# Altium footprint library 691 701 310 0xx B.PcbLib: 11 footprints
Each footprint in its own frame and in the unit in brackets; x right, y up, seen from the top. Pads: shape width x height; smd on the part's side, far side on the other; paste and mask are expansions set on the pad; w line width, h text height; cw(c..) or ccw(c..) is an arc to the next point about the centre after c.
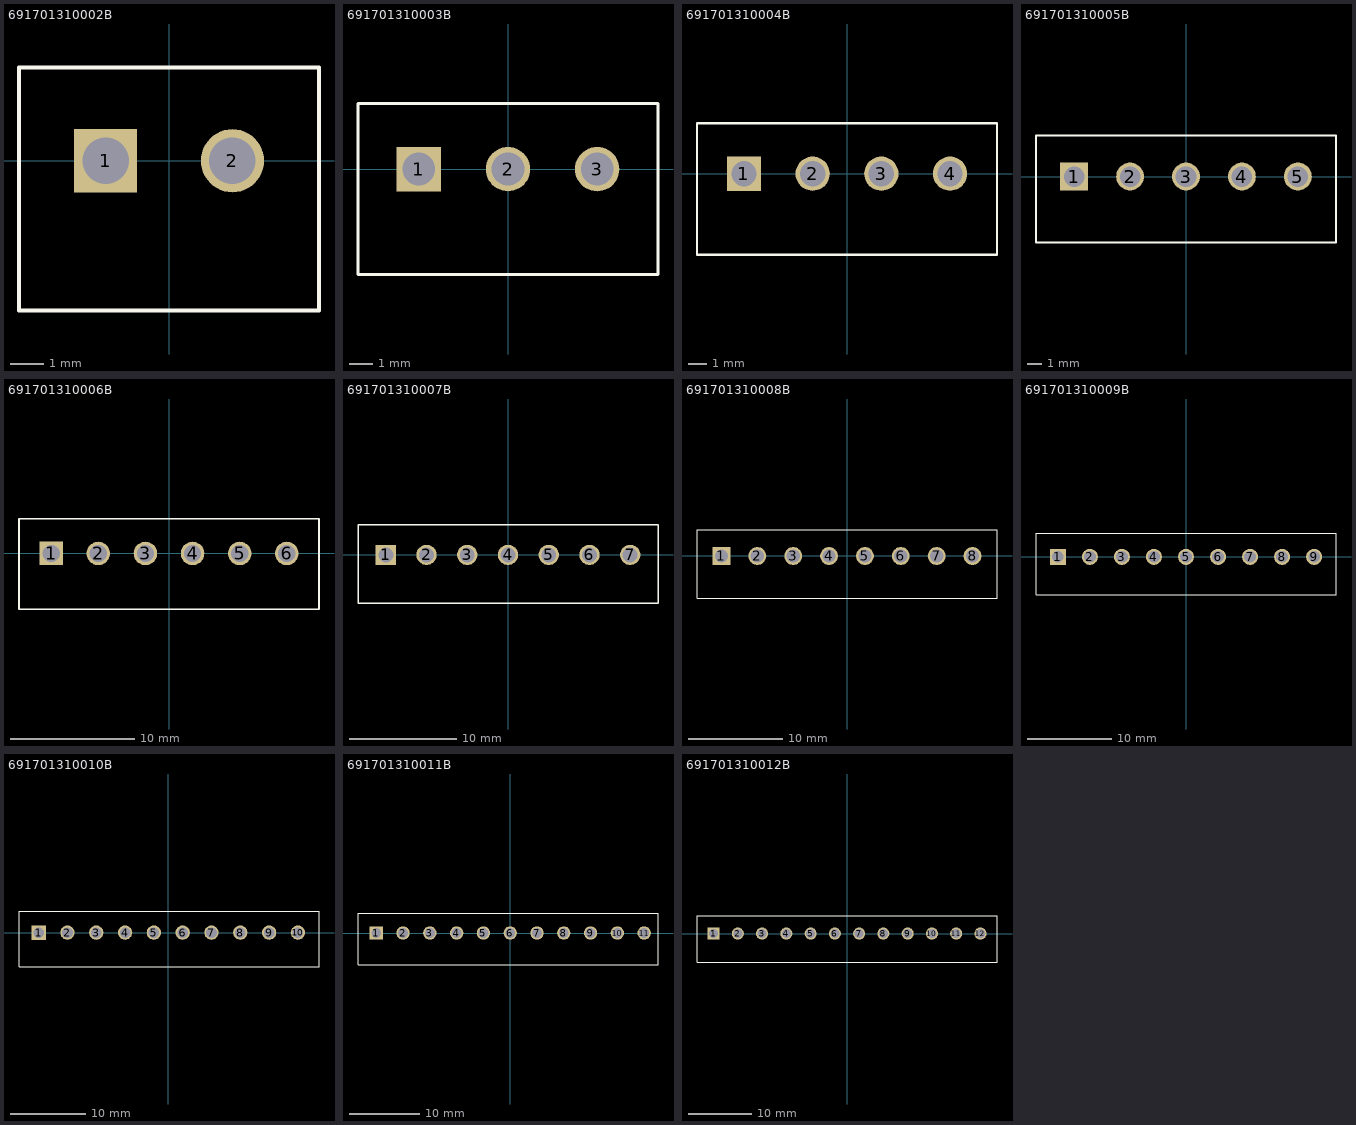
[diagram p0: the footprints below, top view; thin cyan lines are the x and y axes]

## 691701310002B [mm] "THR - 3,81mm - PCB Vertical Close - 02p"
height 9.2
pads (2):
  rect 1.9x1.9 hole 1.4: 1(-1.905,0)
  round 1.9 hole 1.4: 2(1.905,0)
Top Overlay:
  lines w0.127: -4.505,-4.5 -4.505,2.8 ; -4.505,-4.5 4.505,-4.5 ; -4.505,-4.5 4.505,-4.5 ; -4.505,-4.5 -4.505,2.8 ; -4.505,2.8 4.505,2.8 ; -4.505,2.8 4.505,2.8 ; 4.505,-4.5 4.505,2.8 ; 4.505,-4.5 4.505,2.8
3D body: height 9.21, standoff -2.59, extent -4.505,-4.5 4.505,2.8

## 691701310003B [mm] "THR - 3,81mm - PCB Vertical Close - 03p"
height 9.2
pads (3):
  rect 1.9x1.9 hole 1.4: 1(-3.81,0)
  round 1.9 hole 1.4: 2(0,0) 3(3.81,0)
Top Overlay:
  lines w0.127: -6.41,-4.5 -6.41,2.8 ; -6.41,-4.5 6.41,-4.5 ; -6.41,-4.5 6.41,-4.5 ; -6.41,-4.5 -6.41,2.8 ; -6.41,2.8 6.41,2.8 ; -6.41,2.8 6.41,2.8 ; 6.41,-4.5 6.41,2.8 ; 6.41,-4.5 6.41,2.8
3D body: height 9.21, standoff -2.59, extent -6.41,-4.5 6.41,2.8

## 691701310004B [mm] "THR - 3,81mm - PCB Vertical Close - 04p"
height 9.2
pads (4):
  rect 1.9x1.9 hole 1.4: 1(-5.715,0)
  round 1.9 hole 1.4: 2(-1.905,0) 3(1.905,0) 4(5.715,0)
Top Overlay:
  lines w0.127: -8.315,-4.5 -8.315,2.8 ; -8.315,-4.5 8.315,-4.5 ; -8.315,-4.5 8.315,-4.5 ; -8.315,-4.5 -8.315,2.8 ; -8.315,2.8 8.315,2.8 ; -8.315,2.8 8.315,2.8 ; 8.315,-4.5 8.315,2.8 ; 8.315,-4.5 8.315,2.8
3D body: height 9.21, standoff -2.59, extent -8.315,-4.5 8.315,2.8

## 691701310005B [mm] "THR - 3,81mm - PCB Vertical Close - 05p"
height 9.2
pads (5):
  rect 1.9x1.9 hole 1.4: 1(-7.62,0)
  round 1.9 hole 1.4: 2(-3.81,0) 3(0,0) 4(3.81,0) 5(7.62,0)
Top Overlay:
  lines w0.127: -10.22,-4.5 -10.22,2.8 ; -10.22,-4.5 10.22,-4.5 ; -10.22,-4.5 10.22,-4.5 ; -10.22,-4.5 -10.22,2.8 ; -10.22,2.8 10.22,2.8 ; -10.22,2.8 10.22,2.8 ; 10.22,-4.5 10.22,2.8 ; 10.22,-4.5 10.22,2.8
3D body: height 9.21, standoff -2.59, extent -10.22,-4.5 10.22,2.8

## 691701310006B [mm] "THR - 3,81mm - PCB Vertical Close - 06p"
height 9.2
pads (6):
  rect 1.9x1.9 hole 1.4: 1(-9.525,0)
  round 1.9 hole 1.4: 2(-5.715,0) 3(-1.905,0) 4(1.905,0) 5(5.715,0) 6(9.525,0)
Top Overlay:
  lines w0.127: -12.125,-4.5 -12.125,2.8 ; -12.125,-4.5 12.125,-4.5 ; -12.125,-4.5 12.125,-4.5 ; -12.125,-4.5 -12.125,2.8 ; -12.125,2.8 12.125,2.8 ; -12.125,2.8 12.125,2.8 ; 12.125,-4.5 12.125,2.8 ; 12.125,-4.5 12.125,2.8
3D body: height 9.21, standoff -2.59, extent -12.125,-4.5 12.125,2.8

## 691701310007B [mm] "THR - 3,81mm - PCB Vertical Close - 07p"
height 9.2
pads (7):
  rect 1.9x1.9 hole 1.4: 1(-11.43,0)
  round 1.9 hole 1.4: 2(-7.62,0) 3(-3.81,0) 4(0,0) 5(3.81,0) 6(7.62,0) 7(11.43,0)
Top Overlay:
  lines w0.127: -14.03,-4.5 -14.03,2.8 ; -14.03,-4.5 14.03,-4.5 ; -14.03,-4.5 14.03,-4.5 ; -14.03,-4.5 -14.03,2.8 ; -14.03,2.8 14.03,2.8 ; -14.03,2.8 14.03,2.8 ; 14.03,-4.5 14.03,2.8 ; 14.03,-4.5 14.03,2.8
3D body: height 9.21, standoff -2.59, extent -14.03,-4.5 14.03,2.8

## 691701310008B [mm] "THR - 3,81mm - PCB Vertical Close - 08p"
height 9.2
pads (8):
  rect 1.9x1.9 hole 1.4: 1(-13.335,0)
  round 1.9 hole 1.4: 2(-9.525,0) 3(-5.715,0) 4(-1.905,0) 5(1.905,0) 6(5.715,0) 7(9.525,0) 8(13.335,0)
Top Overlay:
  lines w0.127: -15.935,-4.5 -15.935,2.8 ; -15.935,-4.5 15.935,-4.5 ; -15.935,-4.5 15.935,-4.5 ; -15.935,-4.5 -15.935,2.8 ; -15.935,2.8 15.935,2.8 ; -15.935,2.8 15.935,2.8 ; 15.935,-4.5 15.935,2.8 ; 15.935,-4.5 15.935,2.8
3D body: height 9.21, standoff -2.59, extent -15.935,-4.5 15.935,2.8

## 691701310009B [mm] "THR - 3,81mm - PCB Vertical Close - 09p"
height 9.2
pads (9):
  rect 1.9x1.9 hole 1.4: 1(-15.24,0)
  round 1.9 hole 1.4: 2(-11.43,0) 3(-7.62,0) 4(-3.81,0) 5(0,0) 6(3.81,0) 7(7.62,0) 8(11.43,0) 9(15.24,0)
Top Overlay:
  lines w0.127: -17.84,-4.5 -17.84,2.8 ; -17.84,-4.5 17.84,-4.5 ; -17.84,-4.5 17.84,-4.5 ; -17.84,-4.5 -17.84,2.8 ; -17.84,2.8 17.84,2.8 ; -17.84,2.8 17.84,2.8 ; 17.84,-4.5 17.84,2.8 ; 17.84,-4.5 17.84,2.8
3D body: height 9.21, standoff -2.59, extent -17.84,-4.5 17.84,2.8

## 691701310010B [mm] "THR - 3,81mm - PCB Vertical Close - 10p"
height 9.2
pads (10):
  rect 1.9x1.9 hole 1.4: 1(-17.145,0)
  round 1.9 hole 1.4: 2(-13.335,0) 3(-9.525,0) 4(-5.715,0) 5(-1.905,0) 6(1.905,0) 7(5.715,0) 8(9.525,0) 9(13.335,0) 10(17.145,0)
Top Overlay:
  lines w0.127: -19.745,-4.5 -19.745,2.8 ; -19.745,-4.5 19.935,-4.5 ; -19.745,-4.5 19.935,-4.5 ; -19.745,-4.5 -19.745,2.8 ; -19.745,2.8 19.935,2.8 ; -19.745,2.8 19.935,2.8 ; 19.935,-4.5 19.935,2.8 ; 19.935,-4.5 19.935,2.8
3D body: height 9.21, standoff -2.59, extent -19.745,-4.5 19.745,2.8

## 691701310011B [mm] "THR - 3,81mm - PCB Vertical Close - 11p"
height 9.2
pads (11):
  rect 1.9x1.9 hole 1.4: 1(-19.05,0)
  round 1.9 hole 1.4: 2(-15.24,0) 3(-11.43,0) 4(-7.62,0) 5(-3.81,0) 6(0,0) 7(3.81,0) 8(7.62,0) 9(11.43,0) 10(15.24,0) 11(19.05,0)
Top Overlay:
  lines w0.127: -21.65,-4.5 -21.65,2.8 ; -21.65,-4.5 21.02,-4.5 ; -21.65,-4.5 21.02,-4.5 ; -21.65,-4.5 -21.65,2.8 ; -21.65,2.8 21.02,2.8 ; -21.65,2.8 21.02,2.8 ; 21.02,-4.5 21.02,2.8 ; 21.02,-4.5 21.02,2.8
3D body: height 9.21, standoff -2.59, extent -21.65,-4.5 21.65,2.8

## 691701310012B [mm] "THR - 3,81mm - PCB Vertical Close - 12p"
height 9.2
pads (12):
  rect 1.9x1.9 hole 1.4: 1(-20.955,0)
  round 1.9 hole 1.4: 2(-17.145,0) 3(-13.335,0) 4(-9.525,0) 5(-5.715,0) 6(-1.905,0) 7(1.905,0) 8(5.715,0) 9(9.525,0) 10(13.335,0) 11(17.145,0) 12(20.955,0)
Top Overlay:
  lines w0.127: -23.555,-4.5 -23.555,2.8 ; -23.555,-4.5 23.555,-4.5 ; -23.555,-4.5 23.555,-4.5 ; -23.555,-4.5 -23.555,2.8 ; -23.555,2.8 23.555,2.8 ; -23.555,2.8 23.555,2.8 ; 23.555,-4.5 23.555,2.8 ; 23.555,-4.5 23.555,2.8
3D body: height 9.21, standoff -2.59, extent -23.555,-4.5 23.555,2.8